# Altium footprint library FPGA_clock_gen.PcbLib: 2 footprints
Each footprint in its own frame and in the unit in brackets; x right, y up, seen from the top. Pads: shape width x height; smd on the part's side, far side on the other; paste and mask are expansions set on the pad; w line width, h text height; cw(c..) or ccw(c..) is an arc to the next point about the centre after c.
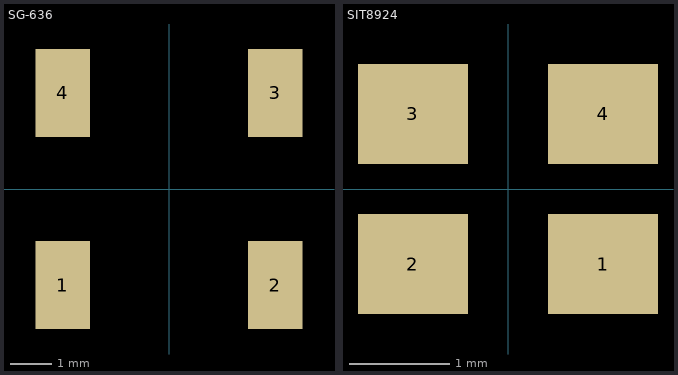
[diagram p0: the footprints below, top view; thin cyan lines are the x and y axes]

## SG-636 [mm] "Clock Oscillator 55 MHz"
pads (4):
  rect 1.3x2.1 smd: 1(-2.54,-2.3) 2(2.54,-2.3) 3(2.54,2.3) 4(-2.54,2.3)

## SIT8924 [mm] "SiTIME Clock Oscillator (50 MHz)"
height 0.8
pads (4):
  rect 1.1x1 smd: 1(0.95,-0.75) 2(-0.95,-0.75) 3(-0.95,0.75) 4(0.95,0.75)